# Altium footprint library Components - 25.03.23 - 13.37.PcbLib: 1 footprints
Each footprint in its own frame and in the unit in brackets; x right, y up, seen from the top. Pads: shape width x height; smd on the part's side, far side on the other; paste and mask are expansions set on the pad; w line width, h text height; cw(c..) or ccw(c..) is an arc to the next point about the centre after c.
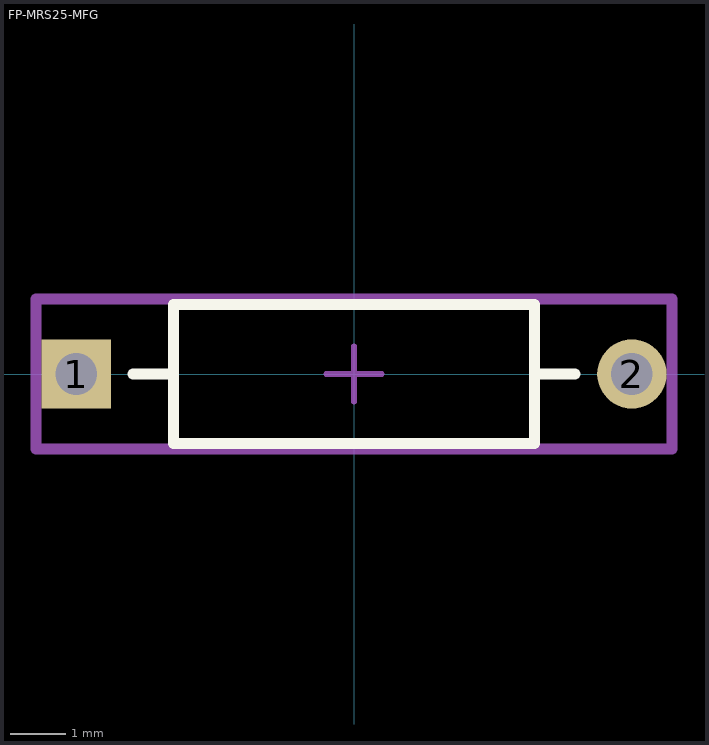
[diagram p0: the footprint, top view; thin cyan lines are the x and y axes]

## FP-MRS25-MFG [mm]
pads (2):
  rect 1.25x1.25 hole 0.75 paste-1000 mask+0: 1(-5,0)
  round 1.25 hole 0.75 paste-1000 mask+0: 2(5,0)
Top Overlay:
  lines w0.2: -3.975,0 -3.25,0 ; 3.25,0 3.975,0 ; -3.25,-1.25 -3.25,1.25 3.25,1.25 3.25,-1.25 -3.25,-1.25
Top Assembly:
  lines w0.2: -5.725,-1.35 -5.725,1.35 5.725,1.35 5.725,-1.35 -5.725,-1.35
  text ".Designator" at 0,0.188 h1
Top 3D Body:
  lines w0.2: -3.25,-1.25 -3.25,1.25 3.25,1.25 3.25,-1.25 -3.25,-1.25
Top Courtyard:
  lines w0.2: -5.725,-1.35 -5.725,1.35 5.725,1.35 5.725,-1.35 -5.725,-1.35
Top Component Center:
  lines w0.1: -0.5,0 0.5,0 ; 0,-0.5 0,0.5
3D body "Res_Vishay_MRS25000C1910FCT00_eec.STEP": height 0.25, standoff 0, extent -5.725,-1.35 5.725,1.35